# EAGLE library part MC34063 (library joep-custom)
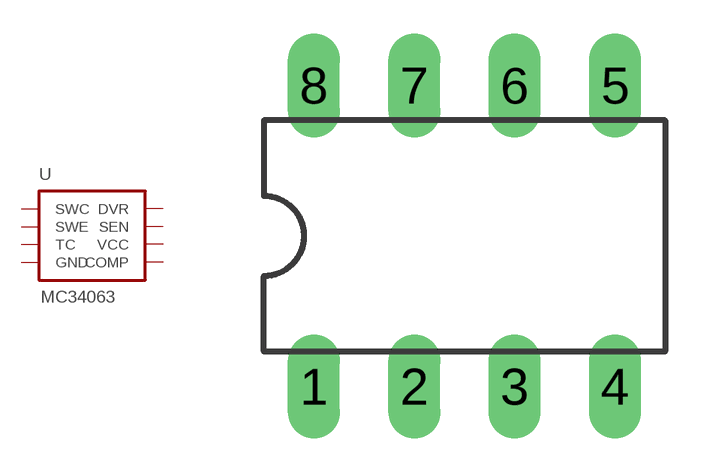
[diagram p1: symbol with the pads of DIL-8; footprint DIL-8]

Designator prefix -

## MC34063  [DIL-8]
1  SWC
2  SWE
3  TC
4  GND
5  COMP
6  VCC
7  SEN
8  DVR

## Footprint DIL-8 (pad centres in mm)
drill 0.813 long: 1 -3.81,-3.81; 2 -1.27,-3.81; 3 1.27,-3.81; 4 3.81,-3.81; 5 3.81,3.81; 6 1.27,3.81; 7 -1.27,3.81; 8 -3.81,3.81